# EAGLE library part SWITCH-4PDT (library Harrington-Switches v9)
4PDT Switch E-Switch
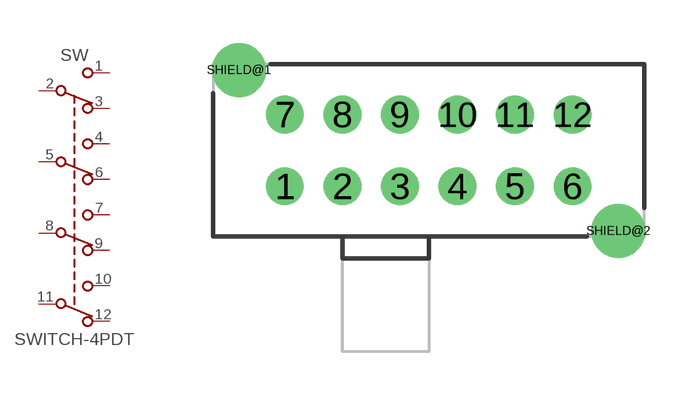
[diagram p0: symbol with the pads of EG4208; footprint EG4208]

Designator prefix SW

## SWITCH-4PDT-EG4208  [EG4208]
1  1
2  2
3  3
4  4
5  5
6  6
7  7
8  8
9  9
10  10
11  11
12  12

## Footprint EG4208 (pad centres in mm)
drill 0.8: 1 -5,-1.25; 2 -3,-1.25; 3 -1,-1.25; 4 1,-1.25; 5 3,-1.25; 6 5,-1.25; 7 -5,1.25; 8 -3,1.25; 9 -1,1.25; 10 1,1.25; 11 3,1.25; 12 5,1.25
drill 1.25: SHIELD@1 -6.6,2.8; SHIELD@2 6.6,-2.8